# Altium footprint library PcbLib.PcbLib: 26 footprints (part 1 of 2)
Each footprint in its own frame and in the unit in brackets; x right, y up, seen from the top. Pads: shape width x height; smd on the part's side, far side on the other; paste and mask are expansions set on the pad; w line width, h text height; cw(c..) or ccw(c..) is an arc to the next point about the centre after c.
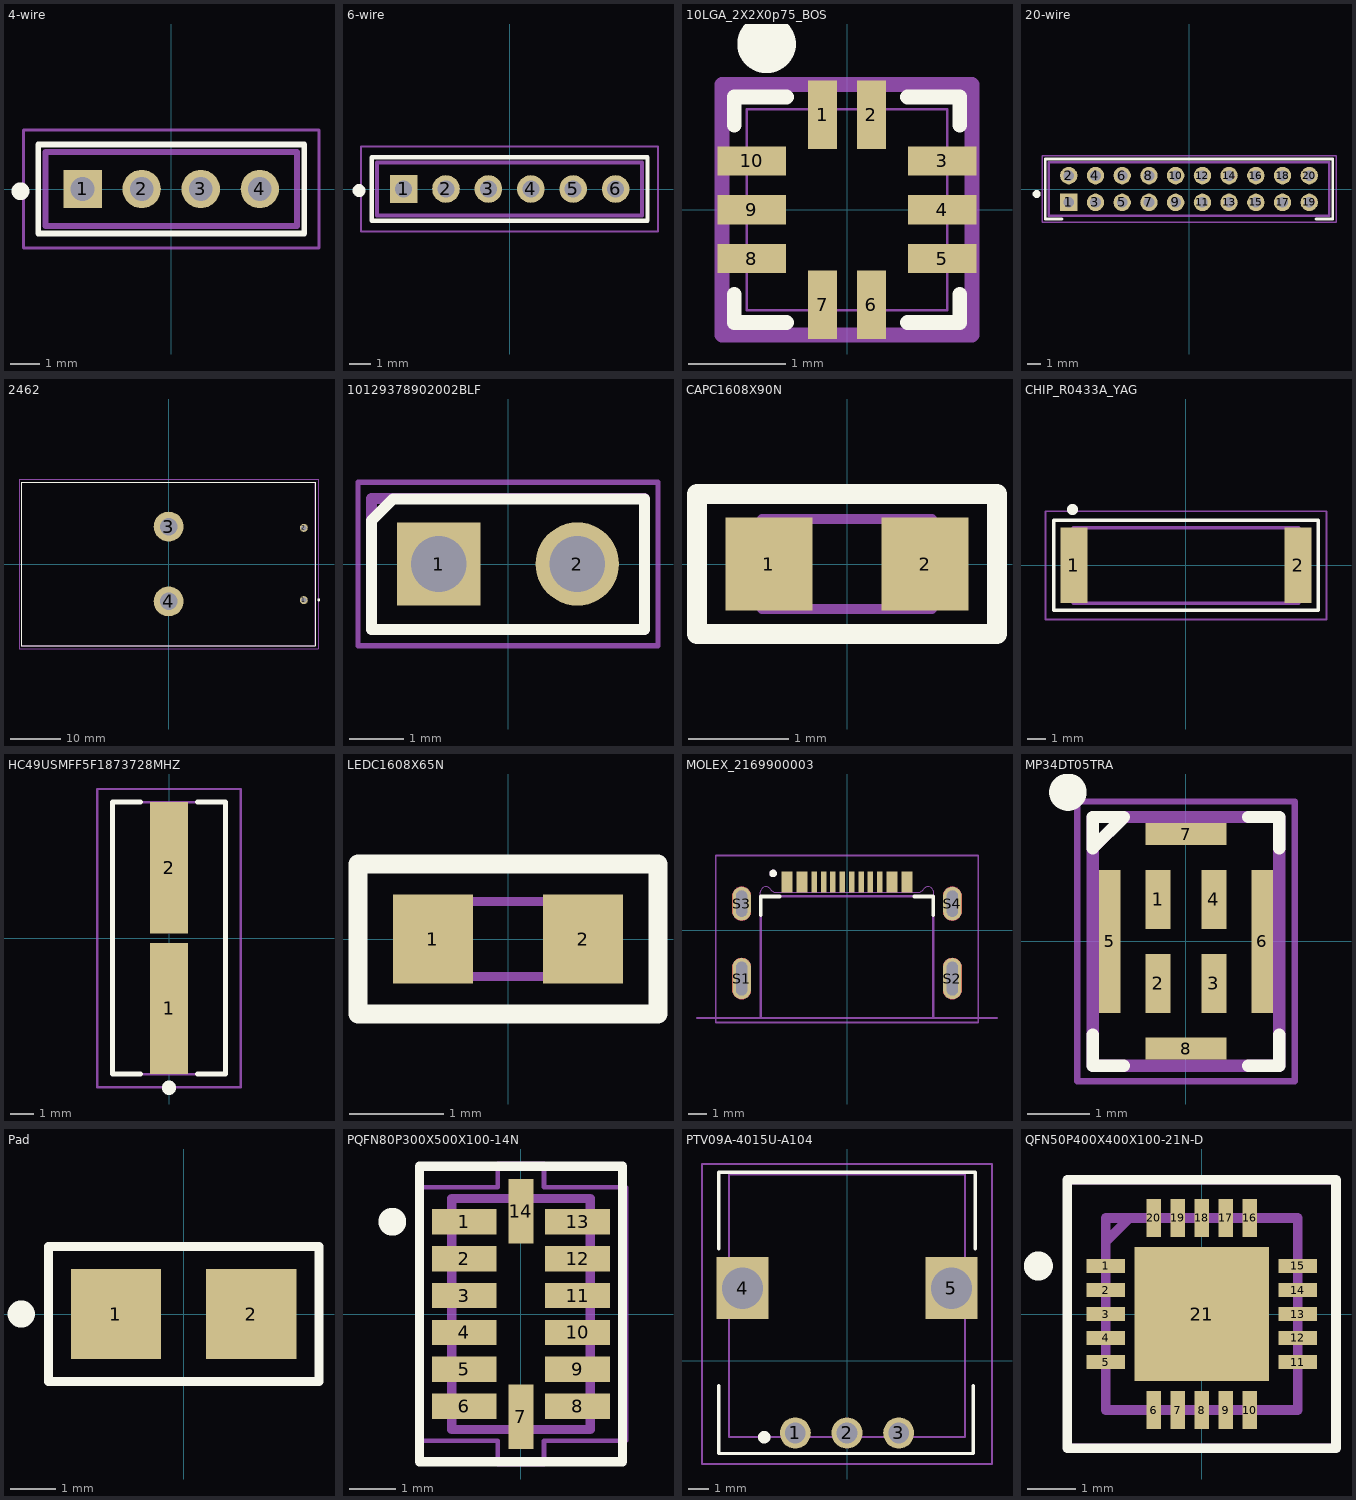
[diagram p0: the footprints below, top view; thin cyan lines are the x and y axes]

## 4-wire [mm] "4-wire Connector"
height 6.2
pads (4):
  rect 1.3x1.3 hole 0.8: 1(-3,0)
  round 1.3 hole 0.8: 2(-1,0) 3(1,0) 4(3,0)
Top Overlay:
  lines w0.2: -4.5,-1.5 4.5,-1.5 4.5,1.5 -4.5,1.5 -4.5,-1.5
  lines w0.5: -5.1,-0.125 cw(c-5.1,-0.075) -5.1,-0.025 cw(c-5.1,-0.075) -5.1,-0.125
Top Assembly:
  lines w0.2: -4.25,-1.25 -4.25,1.25 4.25,1.25 4.25,-1.25 -4.25,-1.25
Top Courtyard:
  lines w0.1: -5,-2 -5,2 5,2 5,-2 -5,-2
3D body "M22-7130442.stp": height 4, standoff -2.8, extent -4.25,-1.2 4.25,1.2

## 6-wire [mm] "6-wire Connector"
height 6.2
pads (6):
  rect 1.3x1.3 hole 0.8: 1(-5,0)
  round 1.3 hole 0.8: 2(-3,0) 3(-1,0) 4(1,0) 5(3,0) 6(5,0)
Top Overlay:
  lines w0.2: -6.5,-1.5 -6.5,1.5 6.5,1.5 6.5,-1.5 -6.5,-1.5
  lines w0.5: -7.1,-0.125 ccw(c-7.1,-0.075) -7.1,-0.025 ccw(c-7.1,-0.075) -7.1,-0.125
Top Assembly:
  lines w0.2: -6.25,-1.25 6.25,-1.25 6.25,1.25 -6.25,1.25 -6.25,-1.25
Top Courtyard:
  lines w0.1: -7,-2 7,-2 7,2 -7,2 -7,-2
3D body "M22-7130642.stp": height 4.4, standoff -2.6, extent -6.25,-1.2 6.25,1.2

## 10LGA_2X2X0p75_BOS [mm] "BMP390"
pads (10):
  rect 0.3x0.7 smd: 1(-0.25,0.975) 2(0.25,0.975) 6(0.25,-0.975) 7(-0.25,-0.975)
  rect 0.7x0.3 smd: 3(0.975,0.5) 4(0.975,0) 5(0.975,-0.5) 8(-0.975,-0.5) 9(-0.975,0) 10(-0.975,0.5)
Top Overlay:
  lines w0.152: -1.156,-0.869 -1.156,-1.156 -0.619,-1.156 ; -1.156,0.869 -1.156,1.156 -0.619,1.156 ; 0.619,-1.156 1.156,-1.156 1.156,-0.869 ; 0.619,1.156 1.156,1.156 1.156,0.869
  lines w0.5: -0.825,1.65 ccw(c-0.825,1.7) -0.825,1.75 ccw(c-0.825,1.7) -0.825,1.65
Top 3D Body (Mech13):
  lines w0.025: -1.029,-0.627 -1.029,-0.373 ; -1.029,-0.127 -1.029,0.127 ; -1.029,0.373 -1.029,0.627 ; -0.377,-1.029 -0.123,-1.029 ; -0.377,1.029 -0.123,1.029 ; 0.123,-1.029 0.377,-1.029 ; 0.123,1.029 0.377,1.029 ; 1.029,-0.627 1.029,-0.373 ; 1.029,-0.127 1.029,0.127 ; 1.029,0.373 1.029,0.627 ; -1.029,-1.029 1.029,-1.029 1.029,1.029 -1.029,1.029 -1.029,-1.029
Top Courtyard:
  lines w0.152: -1.283,-1.283 -1.283,-0.881 -1.283,0.881 -1.283,1.283 -0.631,1.283 0.631,1.283 1.283,1.283 1.283,0.881 1.283,-0.881 1.283,-1.283 0.381,-1.283 -0.881,-1.283 -1.283,-1.283
3D body "10LGA_2X2X0p75_BOS.step": height 0.81, standoff 0, extent -1.029,-1.029 1.029,1.029

## 20-wire [mm] "20-wire Connector"
height 6.2
pads (20):
  rect 1.3x1.3 hole 0.8: 1(-9,-1)
  round 1.3 hole 0.8: 2(-9,1) 3(-7,-1) 4(-7,1) 5(-5,-1) 6(-5,1) 7(-3,-1) 8(-3,1) 9(-1,-1) 10(-1,1) 11(1,-1) 12(1,1) 13(3,-1) 14(3,1) 15(5,-1) 16(5,1) 17(7,-1) 18(7,1) 19(9,-1) 20(9,1)
Top Overlay:
  lines w0.2: -9.5,-2.25 -10.75,-2.25 -10.75,2.25 10.75,2.25 10.75,-2.25 9.5,-2.25
  lines w0.5: -11.4,-0.425 cw(c-11.4,-0.375) -11.4,-0.325 cw(c-11.4,-0.375) -11.4,-0.425
Top Assembly:
  lines w0.2: -10.5,-2 -10.5,2 10.5,2 10.5,-2 -10.5,-2
Top Courtyard:
  lines w0.1: -11,-2.5 -11,2.5 11,2.5 11,-2.5 -11,-2.5
3D body "63453-120LF.stp": height 4.25, standoff -2.75, extent -10.4,-2.1 10.4,2.1

## 2462 [mm] "Battery Holder"
height 15.5
pads (4):
  round 1.6 hole 1.02: 1(27.1,-7.25) 2(27.1,7.25)
  round 6 hole 3.5: 3(0,7.5) 4(0,-7.5)
Top Overlay:
  lines w0.2: -29.5,-16.4 29.4,-16.4 29.4,16.4 -29.5,16.4 -29.5,-16.4
  lines w0.5: 30.1,-7.225 cw(c30.1,-7.175) 30.1,-7.125 cw(c30.1,-7.175) 30.1,-7.225
Top Assembly:
  lines w0.2: -29.5,-16.4 29.4,-16.4 29.4,16.4 -29.5,16.4 -29.5,-16.4
Top Courtyard:
  lines w0.1: -30,-17 -30,17 30,17 30,-17 -30,-17
3D body "2462.stp": height 15.46, standoff -13.53, extent -29.594,-16.5 29.5,16.3

## 10129378902002BLF [mm] "2-wire Jumper"
pads (2):
  rect 1.53x1.53 hole 1.02: 1(-1.27,0)
  round 1.53 hole 1.02: 2(1.27,0)
Top Overlay:
  lines w0.2: -2.5,-1.2 -2.5,0.8 -2.106,1.194 2.5,1.194 2.5,-1.2 -2.5,-1.2
Top Assembly:
  lines w0.2: -2.5,-1.2 -2.5,1.2 2.5,1.2 2.5,-1.2 -2.5,-1.2
Top Courtyard:
  lines w0.1: -2.75,-1.5 -2.75,1.5 2.75,1.5 2.75,-1.5 -2.75,-1.5
3D body "10129378-902002BLF.stp": height 8.18, standoff -2.49, extent -2.54,-1.205 2.54,1.205

## CAPC1608X90N [mm] "Capacitors"
pads (2):
  rect 0.87x0.93 smd: 1(-0.78,0) 2(0.78,0)
Top Overlay:
  lines w0.2: -1.5,-0.7 -1.5,0.7 1.5,0.7 1.5,-0.7 -1.5,-0.7
Top Assembly:
  lines w0.1: -0.85,-0.45 -0.85,0.45 0.85,0.45 0.85,-0.45 -0.85,-0.45
Top Courtyard:
  lines w0.1: -1.5,-0.7 -1.5,0.7 1.5,0.7 1.5,-0.7 -1.5,-0.7
3D body "CL10A106MQ8NNNC.step": height 0.8, standoff 0, extent -0.8,-0.45 0.8,0.45

## CHIP_R0433A_YAG [mm] "Chip Antenna"
height 1.6
pads (2):
  rect 1.5x4.2 smd: 1(-6.225,0) 2(6.225,0)
Top Overlay:
  lines w0.2: -7.35,-2.5 7.35,-2.5 7.35,2.5 -7.35,2.5 -7.35,-2.5
  lines w0.5: -6.3,3.05 ccw(c-6.3,3.1) -6.3,3.15 ccw(c-6.3,3.1) -6.3,3.05
Top Assembly:
  lines w0.2: -6.25,-2.095 6.248,-2.095 6.248,2.095 -6.25,2.095 -6.25,-2.095
Top Courtyard:
  lines w0.1: -7.8,-3 -7.8,3 7.8,3 7.8,-3 -7.8,-3
3D body "CHIP_R0433A_YAG.step": height 1.8, standoff 0, extent -6.248,-2.096 6.248,2.096

## HC49USMFF5F1873728MHZ [mm] "HSE"
height 3.5
pads (2):
  rect 1.6x5.5 smd: 1(0,-2.95) 2(0,2.95)
Top Overlay:
  lines w0.2: -1.2,-5.7 -2.365,-5.7 -2.365,5.7 -1.2,5.7 ; 1.2,-5.7 2.365,-5.7 2.365,5.7 1.2,5.7
  lines w0.5: 0,-6.325 cw(c0,-6.275) 0,-6.225 cw(c0,-6.275) 0,-6.325
Top Assembly:
  lines w0.1: -2.365,-5.7 2.365,-5.7 2.365,5.7 -2.365,5.7 -2.365,-5.7
Top Courtyard:
  lines w0.1: -3,-6.25 -3,6.25 3,6.25 3,-6.25 -3,-6.25
3D body "HC49USM-FF5F18-7.3728MHZ.stp": height 4.6, standoff 0, extent -2.365,-5.7 2.365,5.7

## LEDC1608X65N [mm] "Red LED"
pads (2):
  rect 0.85x0.95 smd: 1(-0.8,0) 2(0.8,0)
Top Overlay:
  lines w0.2: -1.6,-0.8 -1.6,0.8 1.6,0.8 1.6,-0.8 -1.6,-0.8
Top Assembly:
  lines w0.1: -0.8,0.133 -0.533,0.4 ; -0.8,-0.4 0.8,-0.4 0.8,0.4 -0.8,0.4 -0.8,-0.4
Top Courtyard:
  lines w0.1: -1.6,-0.8 1.6,-0.8 1.6,0.8 -1.6,0.8 -1.6,-0.8
3D body "SML-D12U1WT86.stp": height 0.56, standoff 0.01, extent -0.8,-0.4 0.8,0.4

## MOLEX_2169900003 [mm] "USB-C Connector"
height 2.56
pads (16):
  rect 0.6x1.1 smd: A1_B12(-3.2,2.575) A4_B9(-2.4,2.575) B1_A12(3.2,2.575) B4_A9(2.4,2.575)
  rect 0.3x1.1 smd: A5(-1.25,2.575) A6(-0.25,2.575) A7(0.25,2.575) A8(1.25,2.575) B5(1.75,2.575) B6(0.75,2.575) B7(-0.75,2.575) B8(-1.75,2.575)
  oval 1x2.2 hole 0.6 slot 1.8 at 90 deg mask+0: S1(-5.62,-2.575) S2(5.62,-2.575)
  oval 1x1.8 hole 0.6 slot 1.4 at 90 deg mask+0: S3(-5.62,1.425) S4(5.62,1.425)
Top Layer:
  region: -5.568,2.322 -5.516,2.314 -5.465,2.301 -5.417,2.282 -5.37,2.258 -5.326,2.23 -5.285,2.197 -5.248,2.16 -5.215,2.119 -5.187,2.075 -5.163,2.028 -5.144,1.98 -5.131,1.929 -5.123,1.877 -5.12,1.825 -5.12,1.025 -5.123,0.973 -5.131,0.921 -5.144,0.87 -5.163,0.822 -5.187,0.775 -5.215,0.731 -5.248,0.69 -5.285,0.653 -5.326,0.62 -5.37,0.592 -5.417,0.568 -5.465,0.549 -5.516,0.536 -5.568,0.528 -5.62,0.525 -5.672,0.528 -5.724,0.536 -5.775,0.549 -5.823,0.568 -5.87,0.592 -5.914,0.62 -5.955,0.653 -5.992,0.69 -6.025,0.731 -6.053,0.775 -6.077,0.822 -6.096,0.87 -6.109,0.921 -6.117,0.973 -6.12,1.025 -6.12,1.825 -6.117,1.877 -6.109,1.929 -6.096,1.98 -6.077,2.028 -6.053,2.075 -6.025,2.119 -5.992,2.16 -5.955,2.197 -5.914,2.23 -5.87,2.258 -5.823,2.282 -5.775,2.301 -5.724,2.314 -5.672,2.322 -5.62,2.325
  region: -5.568,-1.478 -5.516,-1.486 -5.465,-1.499 -5.417,-1.518 -5.37,-1.542 -5.326,-1.57 -5.285,-1.603 -5.248,-1.64 -5.215,-1.681 -5.187,-1.725 -5.163,-1.772 -5.144,-1.82 -5.131,-1.871 -5.123,-1.923 -5.12,-1.975 -5.12,-3.175 -5.123,-3.227 -5.131,-3.279 -5.144,-3.33 -5.163,-3.378 -5.187,-3.425 -5.215,-3.469 -5.248,-3.51 -5.285,-3.547 -5.326,-3.58 -5.37,-3.608 -5.417,-3.632 -5.465,-3.651 -5.516,-3.664 -5.568,-3.672 -5.62,-3.675 -5.672,-3.672 -5.724,-3.664 -5.775,-3.651 -5.823,-3.632 -5.87,-3.608 -5.914,-3.58 -5.955,-3.547 -5.992,-3.51 -6.025,-3.469 -6.053,-3.425 -6.077,-3.378 -6.096,-3.33 -6.109,-3.279 -6.117,-3.227 -6.12,-3.175 -6.12,-1.975 -6.117,-1.923 -6.109,-1.871 -6.096,-1.82 -6.077,-1.772 -6.053,-1.725 -6.025,-1.681 -5.992,-1.64 -5.955,-1.603 -5.914,-1.57 -5.87,-1.542 -5.823,-1.518 -5.775,-1.499 -5.724,-1.486 -5.672,-1.478 -5.62,-1.475
  region: 5.672,2.322 5.724,2.314 5.775,2.301 5.823,2.282 5.87,2.258 5.914,2.23 5.955,2.197 5.992,2.16 6.025,2.119 6.053,2.075 6.077,2.028 6.096,1.98 6.109,1.929 6.117,1.877 6.12,1.825 6.12,1.025 6.117,0.973 6.109,0.921 6.096,0.87 6.077,0.822 6.053,0.775 6.025,0.731 5.992,0.69 5.955,0.653 5.914,0.62 5.87,0.592 5.823,0.568 5.775,0.549 5.724,0.536 5.672,0.528 5.62,0.525 5.568,0.528 5.516,0.536 5.465,0.549 5.417,0.568 5.37,0.592 5.326,0.62 5.285,0.653 5.248,0.69 5.215,0.731 5.187,0.775 5.163,0.822 5.144,0.87 5.131,0.921 5.123,0.973 5.12,1.025 5.12,1.825 5.123,1.877 5.131,1.929 5.144,1.98 5.163,2.028 5.187,2.075 5.215,2.119 5.248,2.16 5.285,2.197 5.326,2.23 5.37,2.258 5.417,2.282 5.465,2.301 5.516,2.314 5.568,2.322 5.62,2.325
  region: 5.672,-1.478 5.724,-1.486 5.775,-1.499 5.823,-1.518 5.87,-1.542 5.914,-1.57 5.955,-1.603 5.992,-1.64 6.025,-1.681 6.053,-1.725 6.077,-1.772 6.096,-1.82 6.109,-1.871 6.117,-1.923 6.12,-1.975 6.12,-3.175 6.117,-3.227 6.109,-3.279 6.096,-3.33 6.077,-3.378 6.053,-3.425 6.025,-3.469 5.992,-3.51 5.955,-3.547 5.914,-3.58 5.87,-3.608 5.823,-3.632 5.775,-3.651 5.724,-3.664 5.672,-3.672 5.62,-3.675 5.568,-3.672 5.516,-3.664 5.465,-3.651 5.417,-3.632 5.37,-3.608 5.326,-3.58 5.285,-3.547 5.248,-3.51 5.215,-3.469 5.187,-3.425 5.163,-3.378 5.144,-3.33 5.131,-3.279 5.123,-3.227 5.12,-3.175 5.12,-1.975 5.123,-1.923 5.131,-1.871 5.144,-1.82 5.163,-1.772 5.187,-1.725 5.215,-1.681 5.248,-1.64 5.285,-1.603 5.326,-1.57 5.37,-1.542 5.417,-1.518 5.465,-1.499 5.516,-1.486 5.568,-1.478 5.62,-1.475
Bottom Layer:
  region: -5.568,-1.478 -5.516,-1.486 -5.465,-1.499 -5.417,-1.518 -5.37,-1.542 -5.326,-1.57 -5.285,-1.603 -5.248,-1.64 -5.215,-1.681 -5.187,-1.725 -5.163,-1.772 -5.144,-1.82 -5.131,-1.871 -5.123,-1.923 -5.12,-1.975 -5.12,-3.175 -5.123,-3.227 -5.131,-3.279 -5.144,-3.33 -5.163,-3.378 -5.187,-3.425 -5.215,-3.469 -5.248,-3.51 -5.285,-3.547 -5.326,-3.58 -5.37,-3.608 -5.417,-3.632 -5.465,-3.651 -5.516,-3.664 -5.568,-3.672 -5.62,-3.675 -5.672,-3.672 -5.724,-3.664 -5.775,-3.651 -5.823,-3.632 -5.87,-3.608 -5.914,-3.58 -5.955,-3.547 -5.992,-3.51 -6.025,-3.469 -6.053,-3.425 -6.077,-3.378 -6.096,-3.33 -6.109,-3.279 -6.117,-3.227 -6.12,-3.175 -6.12,-1.975 -6.117,-1.923 -6.109,-1.871 -6.096,-1.82 -6.077,-1.772 -6.053,-1.725 -6.025,-1.681 -5.992,-1.64 -5.955,-1.603 -5.914,-1.57 -5.87,-1.542 -5.823,-1.518 -5.775,-1.499 -5.724,-1.486 -5.672,-1.478 -5.62,-1.475
  region: -5.568,2.322 -5.516,2.314 -5.465,2.301 -5.417,2.282 -5.37,2.258 -5.326,2.23 -5.285,2.197 -5.248,2.16 -5.215,2.119 -5.187,2.075 -5.163,2.028 -5.144,1.98 -5.131,1.929 -5.123,1.877 -5.12,1.825 -5.12,1.025 -5.123,0.973 -5.131,0.921 -5.144,0.87 -5.163,0.822 -5.187,0.775 -5.215,0.731 -5.248,0.69 -5.285,0.653 -5.326,0.62 -5.37,0.592 -5.417,0.568 -5.465,0.549 -5.516,0.536 -5.568,0.528 -5.62,0.525 -5.672,0.528 -5.724,0.536 -5.775,0.549 -5.823,0.568 -5.87,0.592 -5.914,0.62 -5.955,0.653 -5.992,0.69 -6.025,0.731 -6.053,0.775 -6.077,0.822 -6.096,0.87 -6.109,0.921 -6.117,0.973 -6.12,1.025 -6.12,1.825 -6.117,1.877 -6.109,1.929 -6.096,1.98 -6.077,2.028 -6.053,2.075 -6.025,2.119 -5.992,2.16 -5.955,2.197 -5.914,2.23 -5.87,2.258 -5.823,2.282 -5.775,2.301 -5.724,2.314 -5.672,2.322 -5.62,2.325
  region: 5.672,2.322 5.724,2.314 5.775,2.301 5.823,2.282 5.87,2.258 5.914,2.23 5.955,2.197 5.992,2.16 6.025,2.119 6.053,2.075 6.077,2.028 6.096,1.98 6.109,1.929 6.117,1.877 6.12,1.825 6.12,1.025 6.117,0.973 6.109,0.921 6.096,0.87 6.077,0.822 6.053,0.775 6.025,0.731 5.992,0.69 5.955,0.653 5.914,0.62 5.87,0.592 5.823,0.568 5.775,0.549 5.724,0.536 5.672,0.528 5.62,0.525 5.568,0.528 5.516,0.536 5.465,0.549 5.417,0.568 5.37,0.592 5.326,0.62 5.285,0.653 5.248,0.69 5.215,0.731 5.187,0.775 5.163,0.822 5.144,0.87 5.131,0.921 5.123,0.973 5.12,1.025 5.12,1.825 5.123,1.877 5.131,1.929 5.144,1.98 5.163,2.028 5.187,2.075 5.215,2.119 5.248,2.16 5.285,2.197 5.326,2.23 5.37,2.258 5.417,2.282 5.465,2.301 5.516,2.314 5.568,2.322 5.62,2.325
  region: 5.672,-1.478 5.724,-1.486 5.775,-1.499 5.823,-1.518 5.87,-1.542 5.914,-1.57 5.955,-1.603 5.992,-1.64 6.025,-1.681 6.053,-1.725 6.077,-1.772 6.096,-1.82 6.109,-1.871 6.117,-1.923 6.12,-1.975 6.12,-3.175 6.117,-3.227 6.109,-3.279 6.096,-3.33 6.077,-3.378 6.053,-3.425 6.025,-3.469 5.992,-3.51 5.955,-3.547 5.914,-3.58 5.87,-3.608 5.823,-3.632 5.775,-3.651 5.724,-3.664 5.672,-3.672 5.62,-3.675 5.568,-3.672 5.516,-3.664 5.465,-3.651 5.417,-3.632 5.37,-3.608 5.326,-3.58 5.285,-3.547 5.248,-3.51 5.215,-3.469 5.187,-3.425 5.163,-3.378 5.144,-3.33 5.131,-3.279 5.123,-3.227 5.12,-3.175 5.12,-1.975 5.123,-1.923 5.131,-1.871 5.144,-1.82 5.163,-1.772 5.187,-1.725 5.215,-1.681 5.248,-1.64 5.285,-1.603 5.326,-1.57 5.37,-1.542 5.417,-1.518 5.465,-1.499 5.516,-1.486 5.568,-1.478 5.62,-1.475
Top Overlay:
  circle w0.2: c-3.94,3.035 r0.1
  lines w0.2: -4.6,0.8 -4.6,1.8 -3.6,1.8 ; 3.6,1.8 4.6,1.8 4.6,0.8
Top Solder:
  drawing of 4 lines, arcs and shapes, not listed
Bottom Solder:
  drawing of 4 lines, arcs and shapes, not listed
Top Assembly:
  circle w0.2: c-3.94,3.035 r0.1
  lines w0: -4.62,-4.675 4.62,-4.675 4.62,2.025 ccw(c4.32,2.025) 4.06,2.175 cw(c3.8,2.325) 3.8,2.025 -3.8,2.025 cw(c-3.8,2.325) -4.06,2.175 ccw(c-4.32,2.025) -4.62,2.025 -4.62,-4.675
  lines w0.127: -8,-4.675 -4.47,-4.675 ; 4.47,-4.675 8,-4.675 ; -4.6,-4.675 -4.6,1.825 4.6,1.825 4.6,-4.675 -4.6,-4.675
  text "PCB EDGE" at 6.64,-4.475 h0.41
Top Courtyard:
  lines w0.1: -7,-4.925 -7,4 7,4 7,-4.925 -7,-4.925
3D body "2169900003.stp": height 2.16, standoff -1.02, extent -5.77,-4.6 5.77,2.6

## MP34DT05TRA [mm] "Microphone"
height 1
pads (8):
  rect 0.4x0.95 smd: 1(-0.45,0.675) 2(-0.45,-0.675) 3(0.45,-0.675) 4(0.45,0.675)
  rect 0.35x2.3 smd: 5(-1.225,0) 6(1.225,0)
  rect 1.3x0.35 smd: 7(0,1.725) 8(0,-1.725)
Top Overlay:
  lines w0.2: -1.5,-1.5 -1.5,-2 -1,-2 ; 1,-2 1.5,-2 1.5,-1.5 ; 1,2 1.5,2 1.5,1.5 ; -1.5,1.5 -1.5,2 -1,2 -1.5,1.5
  lines w0.5: -1.9,2.35 cw(c-1.9,2.4) -1.9,2.45 cw(c-1.9,2.4) -1.9,2.35
Top Assembly:
  lines w0.2: -1.5,1.5 -1,2 ; -1.5,-2 -1.5,2 1.5,2 1.5,-2 -1.5,-2
Top Courtyard:
  lines w0.1: -1.75,-2.25 -1.75,2.25 1.75,2.25 1.75,-2.25 -1.75,-2.25
3D body "MP34DT05TR-A.stp": height 1.11, standoff 0.06, extent -1.5,-2 1.5,2

## Pad [mm] "For Speaker Connection"
pads (2):
  rect 2x2 smd: 1(-1.5,0) 2(1.5,0)
Top Overlay:
  lines w0.2: -3,-1.5 3,-1.5 3,1.5 -3,1.5 -3,-1.5
  lines w0.5: -3.6,-0.05 cw(c-3.6,0) -3.6,0.05 cw(c-3.6,0) -3.6,-0.05
Top Courtyard:
  lines w0.1: -3,-1.5 3,-1.5 3,1.5 -3,1.5 -3,-1.5

## PQFN80P300X500X100-14N [mm] "Accelerometer"
height 1
pads (14):
  rect 1.4x0.55 smd mask+0.15: 1(-1.225,2) 2(-1.225,1.2) 3(-1.225,0.4) 4(-1.225,-0.4) 5(-1.225,-1.2) 6(-1.225,-2) 8(1.225,-2) 9(1.225,-1.2) 10(1.225,-0.4) 11(1.225,0.4) 12(1.225,1.2) 13(1.225,2)
  rect 0.55x1.4 smd mask+0.15: 7(0,-2.225) 14(0,2.225)
Top Overlay:
  lines w0.2: -2.2,-3.2 2.2,-3.2 2.2,3.2 -2.2,3.2 -2.2,-3.2
  lines w0.5: -2.787,1.95 cw(c-2.787,2) -2.787,2.05 cw(c-2.787,2) -2.787,1.95
Top Assembly:
  lines w0.2: -1.5,-2.5 -1.5,2.5 1.5,2.5 1.5,-2.5 -1.5,-2.5
Top Courtyard:
  lines w0.1: -2.225,-2.75 -0.5,-2.75 -0.5,-3.25 0.5,-3.25 0.5,-2.75 2.275,-2.75 2.275,2.75 0.5,2.75 0.5,3.25 -0.5,3.25 -0.5,2.75 -2.225,2.75 -2.225,-2.75
3D body "step_temp.STEP": height 1, standoff 0, extent -1.5,-2.5 1.5,2.5

## PTV09A-4015U-A104 [mm] "Potentiometer"
pads (5):
  round 1.5 hole 1: 1(-2.5,-3.5) 2(0,-3.5) 3(2.5,-3.5)
  rect 2.5x3 hole 2 square: 4(-5.05,3.5) 5(5.05,3.5)
Top Overlay:
  lines w0.152: -6.2,-1.208 -6.2,-4.5 6.1,-4.5 6.1,-1.208 ; -6.2,5.4 -6.2,9.1 6.2,9.1 6.2,5.4
  lines w0.5: -4,-3.75 ccw(c-4,-3.7) -4,-3.65 ccw(c-4,-3.7) -4,-3.75
Top Assembly:
  lines w0.1: -5.7,-3.7 5.7,-3.7 5.7,9 -5.7,9 -5.7,-3.7
Top Courtyard:
  lines w0.1: -7,-5 -7,9.5 7,9.5 7,-5 -7,-5
3D body "PTV09A-4015U-A104.stp": height 14.6, standoff -4.48, extent -5.7,-3.65 5.7,9

## QFN50P400X400X100-21N-D [mm] "Audio Amplifier"
height 1
pads (21):
  rect 0.8x0.3 smd: 1(-2,1) 2(-2,0.5) 3(-2,0) 4(-2,-0.5) 5(-2,-1) 11(2,-1) 12(2,-0.5) 13(2,0) 14(2,0.5) 15(2,1)
  rect 0.3x0.8 smd: 6(-1,-2) 7(-0.5,-2) 8(0,-2) 9(0.5,-2) 10(1,-2) 16(1,2) 17(0.5,2) 18(0,2) 19(-0.5,2) 20(-1,2)
  rect 2.8x2.8 smd: 21(0,0)
Top Overlay:
  lines w0.2: -2.8,-2.8 -2.8,2.8 2.8,2.8 2.8,-2.8 -2.8,-2.8
  lines w0.5: -3.4,0.95 ccw(c-3.4,1) -3.4,1.05 ccw(c-3.4,1) -3.4,0.95
Top Assembly:
  lines w0.2: -2,1.5 -1.5,2 ; -2,-2 -2,2 2,2 2,-2 -2,-2
Top Courtyard:
  lines w0.1: -2.75,-2.75 2.75,-2.75 2.75,2.75 -2.75,2.75 -2.75,-2.75
3D body "TPA2013D1RGPR.stp": height 1, standoff 0, extent -2,-2 2,2